# Altium footprint library Altium_SIM.PcbLib: 3 footprints
Each footprint in its own frame and in the unit in brackets; x right, y up, seen from the top. Pads: shape width x height; smd on the part's side, far side on the other; paste and mask are expansions set on the pad; w line width, h text height; cw(c..) or ccw(c..) is an arc to the next point about the centre after c.
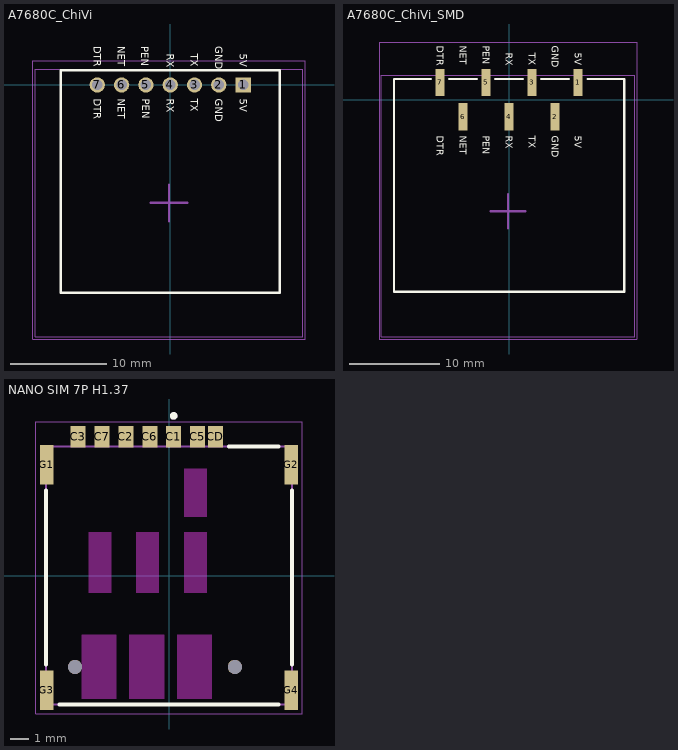
[diagram p0: the footprints below, top view; thin cyan lines are the x and y axes]

## A7680C_ChiVi [mm]
pads (7):
  rect 1.6x1.6 hole 1.1: 1(7.62,0)
  round 1.6 hole 1.1: 2(5.08,0) 3(2.54,0) 4(0,0) 5(-2.54,0) 6(-5.08,0) 7(-7.62,0)
Top Overlay:
  lines w0.254: -11.43,-21.717 -11.43,1.524 11.43,1.524 11.43,-21.717 -11.43,-21.717
  text "5V" at 7.239,-1.422 h0.76
  text "GND" at 4.699,-1.422 h0.76
  text "TX" at 2.159,-1.422 h0.76
  text "RX" at -0.381,-1.422 h0.76
  text "PEN" at -2.921,-1.422 h0.76
  text "NET" at -5.461,-1.422 h0.76
  text "DTR" at -8.001,-1.422 h0.76
  text "5V" at 7.239,3.277 h0.76
  text "TX" at 2.159,3.277 h0.76
  text "RX" at -0.381,3.277 h0.76
  text "NET" at -5.461,4.039 h0.76
  text "PEN" at -3.048,4.039 h0.76
  text "DTR" at -8.001,4.039 h0.76
  text "GND" at 4.699,4.039 h0.76
Top Designator:
  text ".Designator" at -7.625,-12.819 h1.5
Mechanical 13:
  lines w0.127: -14.097,-26.289 13.843,-26.289 13.843,1.651 -14.097,1.651 -14.097,-26.289
  text "NO COMP IN THIS ZONE" at -9.945,-9.398 h1.02
Mechanical 15:
  lines w0.127: -14.351,-26.543 -14.351,2.54 14.097,2.54 14.097,-26.543 -14.351,-26.543
  lines w0.254: -2.032,-12.319 1.778,-12.319 ; -0.127,-14.224 -0.127,-10.414
3D body "A7680C.step": height 6.29, standoff -5.9, extent -14.097,-26.289 13.843,1.651

## A7680C_ChiVi_SMD [mm]
pads (7):
  rect 1x3 smd: 1(7.62,1.9) 2(5.08,-1.9) 3(2.54,1.9) 4(0,-1.9) 5(-2.54,1.9) 6(-5.08,-1.9) 7(-7.62,1.9)
Top Overlay:
  lines w0.254: -8.636,2.286 -12.7,2.286 -12.7,-21.209 12.7,-21.209 12.7,2.286 8.636,2.286 ; -6.604,2.286 -3.556,2.286 ; -1.524,2.286 1.524,2.286 ; 3.556,2.286 6.604,2.286
  text "5V" at 7.239,5.166 h0.76
  text "GND" at 4.699,5.928 h0.76
  text "TX" at 2.159,5.166 h0.76
  text "RX" at -0.381,5.166 h0.76
  text "PEN" at -2.921,5.928 h0.76
  text "NET" at -5.461,5.928 h0.76
  text "DTR" at -8.001,5.928 h0.76
  text "5V" at 7.239,-3.978 h0.76
  text "GND" at 4.699,-3.978 h0.76
  text "TX" at 2.159,-3.978 h0.76
  text "RX" at -0.381,-3.978 h0.76
  text "PEN" at -2.921,-3.978 h0.76
  text "NET" at -5.461,-3.978 h0.76
  text "DTR" at -8.001,-3.978 h0.76
Top Designator:
  text ".Designator" at -7.625,-12.819 h1.5
Mechanical 13:
  lines w0.127: -14.097,-26.162 13.843,-26.162 13.843,2.667 -14.097,2.667 -14.097,-26.162
  text "NO COMP IN THIS ZONE" at -9.945,-9.652 h1.02
Mechanical 15:
  lines w0.127: -14.351,-26.416 -14.351,6.35 14.097,6.35 14.097,-26.416 -14.351,-26.416
  lines w0.254: -2.032,-12.319 1.778,-12.319 ; -0.127,-14.224 -0.127,-10.414
3D body "Header - SMD - Vertical - 7.stp": height 9.7, standoff 0, extent -8.89,-2.464 8.89,2.54
3D body "A7680C.step": height 8.12, standoff 2.4, extent -14.097,-26.162 13.843,1.778

## NANO SIM 7P H1.37 [mm]
pads (13):
  rect 0.8x1.14 smd: C1(0.25,7.37) C2(-2.29,7.37) C3(-4.83,7.37) C5(1.52,7.37) C6(-1.02,7.37) C7(-3.56,7.37) CD(2.47,7.37)
  rect 0.7x2.1 smd: G1(-6.5,5.89) G2(6.5,5.89) G3(-6.5,-6.11) G4(6.5,-6.11)
  round 0.75 hole 0.75 unplated: ""(-5,-4.86) ""(3.5,-4.86)
Top Layer keep-out:
  region: 2,3.135 0.8,3.135 0.8,5.685 2,5.685
  region: 2.285,-6.56 0.435,-6.56 0.435,-3.16 2.285,-3.16
  region: -2.795,-6.56 -4.645,-6.56 -4.645,-3.16 -2.795,-3.16
  region: -0.255,-6.56 -2.105,-6.56 -2.105,-3.16 -0.255,-3.16
  region: 2,-0.915 0.8,-0.915 0.8,2.295 2,2.295
  region: -0.54,-0.915 -1.74,-0.915 -1.74,2.295 -0.54,2.295
  region: -3.08,-0.915 -4.28,-0.915 -4.28,2.295 -3.08,2.295
Top Overlay:
  circle w0.2: c0.25,8.49 r0.1
  lines w0.2: -6.545,-4.74 -6.545,4.52 ; -5.83,-6.86 5.83,-6.86 ; 3.19,6.86 5.83,6.86 ; 6.545,-4.74 6.545,4.52
Top Designator:
  text ".Designator" at -7.498,-0.5 h1.5
Mechanical 13:
  circle w0.2: c0.25,8.49 r0.1
  lines w0.1: -6.545,-6.86 -6.545,6.86 6.545,6.86 6.545,-6.86 -6.545,-6.86
Mechanical 15:
  lines w0.05: -7.1,-7.366 -7.1,8.19 7.1,8.19 7.1,-7.366 -7.1,-7.366
3D body "SIM8066-6-1-14-01-A--3DModel-STEP-56544.STEP": height 1.44, standoff -0.37, extent -6.545,-6.985 6.545,7.595